# Altium schematic symbol library C8051F340_TQFP48.SchLib: 1 symbol
Pins are listed as number, name and electrical type; pins without a type are passive.

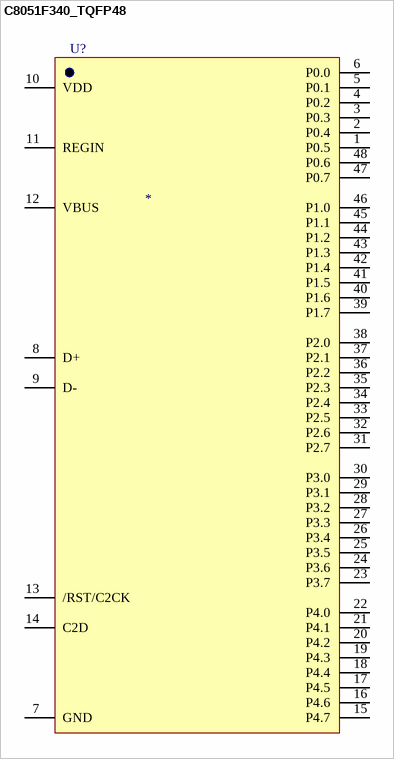
[diagram p0: symbol C8051F340_TQFP48]

## C8051F340_TQFP48
designator U?
pins: 1 P0.5, 2 P0.4, 3 P0.3, 4 P0.2, 5 P0.1, 6 P0.0, 7 GND, 8 D+, 9 D-, 10 VDD, 11 REGIN, 12 VBUS, 13 /RST/C2CK, 14 C2D, 15 P4.7, 16 P4.6, 17 P4.5, 18 P4.4, 19 P4.3, 20 P4.2, 21 P4.1, 22 P4.0, 23 P3.7, 24 P3.6, 25 P3.5, 26 P3.4, 27 P3.3, 28 P3.2, 29 P3.1, 30 P3.0, 31 P2.7, 32 P2.6, 33 P2.5, 34 P2.4, 35 P2.3, 36 P2.2, 37 P2.1, 38 P2.0, 39 P1.7, 40 P1.6, 41 P1.5, 42 P1.4, 43 P1.3, 44 P1.2, 45 P1.1, 46 P1.0, 47 P0.7, 48 P0.6